# Altium schematic symbol library TLV758P.SchLib: 1 symbol
Pins are listed as number, name and electrical type; pins without a type are passive.

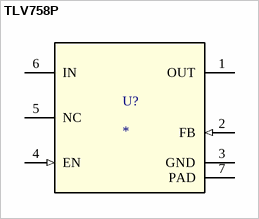
[diagram p0: symbol TLV758P]

## TLV758P
designator U?
500-mA, low-IQ, high-accuracy, adjustable ultra-low-dropout voltage regulator with enable; PartNumber: TLV75801PDRVR; Manufacturer: Texas Instruments; RefDes: RefDes; TYPE: TYPE; Value: Value; ComponentLink1Description: Product page; ComponentLink1URL: https://www.ti.com/product/TLV758P
footprint DRV_6A (DRV0006A)
footprint DRV_6A_NO_VIA (DRV0006A)
pins: 1 OUT (power), 2 FB (in), 3 GND (power), 4 EN (in), 5 NC, 6 IN (power), 7 PAD (power)